# EAGLE library part CAT24M01WI-GT3 (library Signetics)
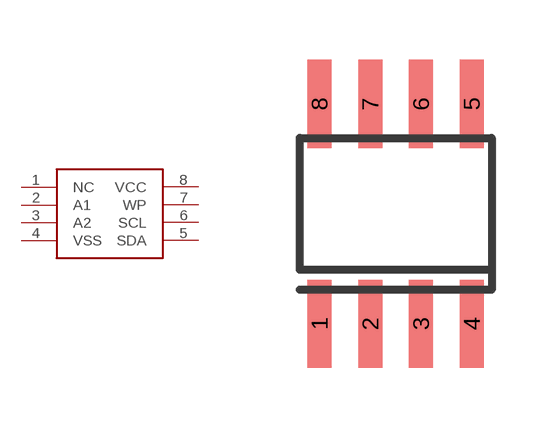
[diagram p8: symbol with the pads of SO08; footprint SO08]

Designator prefix -

## CAT24M01WI-GT3  [SO08]
1  NC
2  A1
3  A2
4  VSS
5  SDA
6  SCL
7  WP
8  VCC

## Footprint SO08 (pad centres in mm)
Small Outline Package 8 NS Package M08A
smd 0.6 x 2.2: 1 -1.905,-2.75; 2 -0.635,-2.75; 3 0.635,-2.75; 4 1.905,-2.75; 5 1.905,2.75; 6 0.635,2.75; 7 -0.635,2.75; 8 -1.905,2.75